# EAGLE library part M08 (library Skoba)
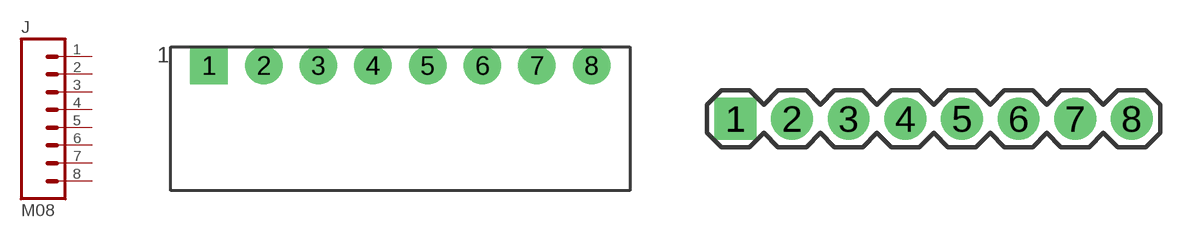
[diagram p18: symbol with the pads of PHOENIX-3.5MM-8-RA; footprints PHOENIX-3.5MM-8-RA, 1X08]

Designator prefix J

## M08PHOENIX-3.5MM (VALSTAT: LABEL)  [PHOENIX-3.5MM-8-RA]
1  1  pas
2  2  pas
3  3  pas
4  4  pas
5  5  pas
6  6  pas
7  7  pas
8  8  pas

## M08PTH-0.1 (PIN1: >PIN1; PIN2: >PIN2; PIN3: >PIN3; PIN4: >PIN4; PIN5: >PIN5; PIN6: >PIN6; PIN7: >PIN7; PIN8: >PIN8; VALSTAT: LABEL)  [1X08]
Pads as for PHOENIX-3.5MM-8-RA

## Footprint PHOENIX-3.5MM-8-RA (pad centres in mm)
drill 1.45 pad 2.4 square: 1 0,0
drill 1.45 pad 2.4: 2 3.5,0; 3 7,0; 4 10.5,0; 5 14,0; 6 17.5,0; 7 21,0; 8 24.5,0

## Footprint 1X08 (pad centres in mm)
drill 1.016 pad 1.88 square: 1 0,0
drill 1.016 pad 1.88: 2 2.54,0; 3 5.08,0; 4 7.62,0; 5 10.16,0; 6 12.7,0; 7 15.24,0; 8 17.78,0